# EAGLE library part MSTBA24 (library con-phoenix-508)
PHOENIX
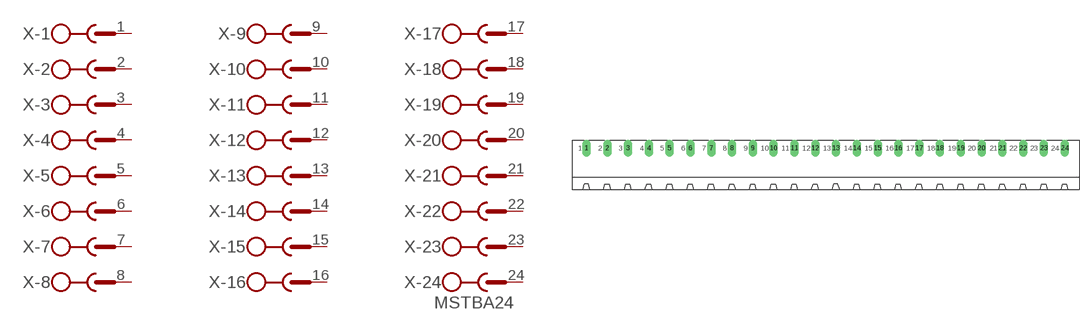
[diagram p44: symbol with the pads of MSTBA24; footprint MSTBA24]

Designator prefix X; gates -1=SK -2=SK -3=SK -4=SK -5=SK -6=SK -7=SK -8=SK -9=SK -10=SK -11=SK -12=SK -13=SK -14=SK -15=SK -16=SK -17=SK -18=SK -19=SK -20=SK -21=SK -22=SK -23=SK -24=SKV

## MSTBA24  [MSTBA24]
1  -1:1  pas
2  -2:1  pas
3  -3:1  pas
4  -4:1  pas
5  -5:1  pas
6  -6:1  pas
7  -7:1  pas
8  -8:1  pas
9  -9:1  pas
10  -10:1  pas
11  -11:1  pas
12  -12:1  pas
13  -13:1  pas
14  -14:1  pas
15  -15:1  pas
16  -16:1  pas
17  -17:1  pas
18  -18:1  pas
19  -19:1  pas
20  -20:1  pas
21  -21:1  pas
22  -22:1  pas
23  -23:1  pas
24  -24:1  pas

## Footprint MSTBA24 (pad centres in mm)
PHOENIX
drill 1.397 long: 1 -58.42,5.08; 2 -53.34,5.08; 3 -48.26,5.08; 4 -43.18,5.08; 5 -38.1,5.08; 6 -33.02,5.08; 7 -27.94,5.08; 8 -22.86,5.08; 9 -17.78,5.08; 10 -12.7,5.08; 11 -7.62,5.08; 12 -2.54,5.08; 13 2.54,5.08; 14 7.62,5.08; 15 12.7,5.08; 16 17.78,5.08; 17 22.86,5.08; 18 27.94,5.08; 19 33.02,5.08; 20 38.1,5.08; 21 43.18,5.08; 22 48.26,5.08; 23 53.34,5.08; 24 58.42,5.08